# Altium schematic symbol library kbd_training_sch_lib.SchLib: 16 symbols
Pins are listed as number, name and electrical type; pins without a type are passive.

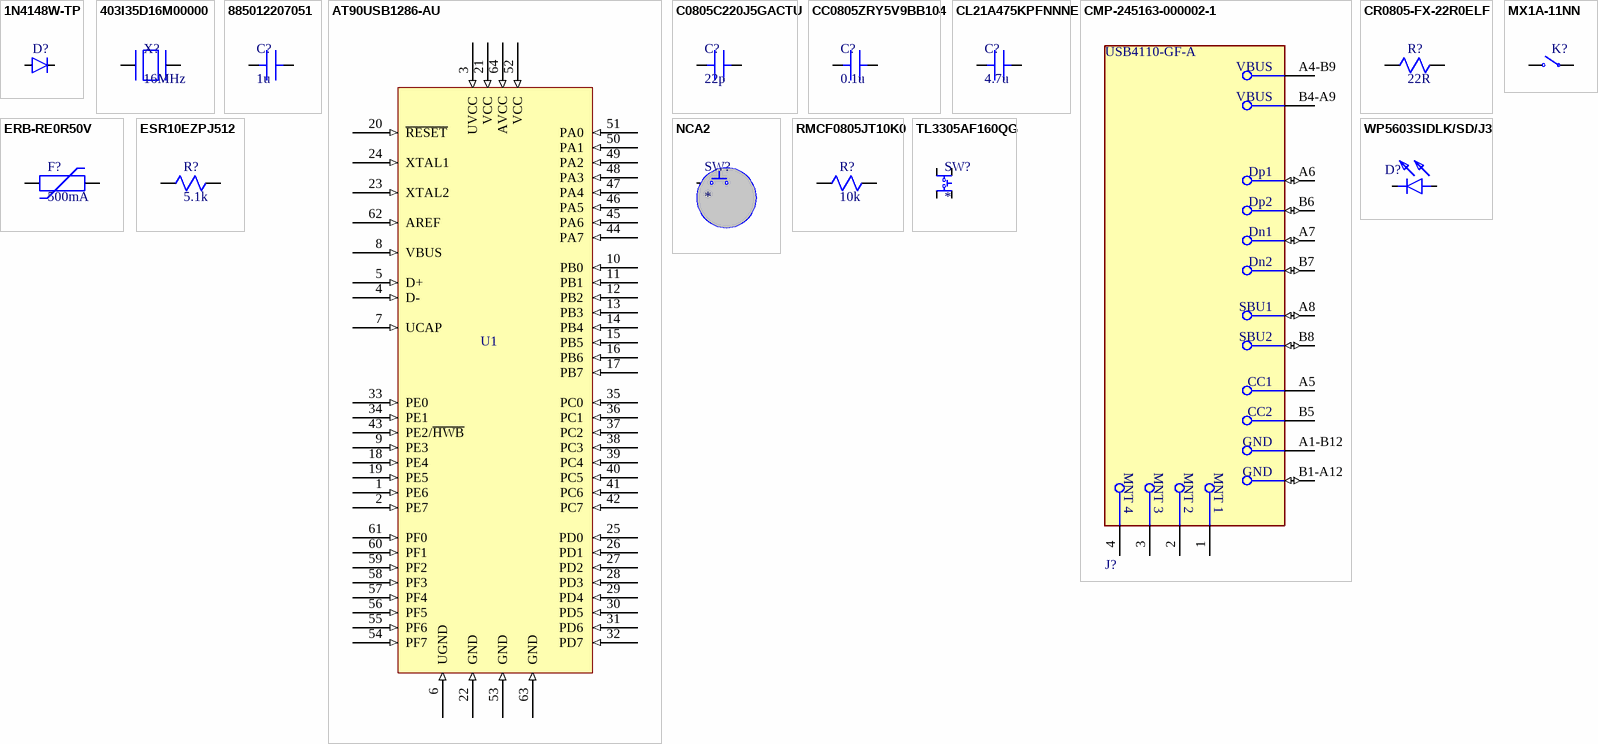
[diagram p0: symbols 1N4148W-TP to WP5603SIDLK/SD/J3]

## 1N4148W-TP
designator D?
VR=100V IF=300mA Trr=4ns P=400mW; Manufacturer: MCC; Manufacturer Part Number: 1N4148W-TP; Max Surge Current: 2A; Forward Voltage: 1V; Forward Current: 150mA; Recovery Time: 4ns; Max Reverse Leakage Current: 5uA; Max Repetitive Reverse Voltage (Vrrm): 100V; Power Dissipation: 400mW; Max Forward Surge Current (Ifsm): 1A; Element Configuration: Single; Polarity: Standard; Capacitance: 4pF; Supplier 1: Digi-Key; RoHS: Yes; Category: Rectifier Diodes; Stock 1: 5873694; Pricing 1: 1=0.19000, 10=0.17300, 100=0.09440, 500=0.05808, 1000=0.03960 (USD); Mount: Surface Mount; Number of Pins: 2; Min Operating Temperature: -65°C; Max Operating Temperature: 150°C; Packaging: Tape and Reel; Package Quantity: 3000; Average Rectified Current: 150mA; Reverse Recovery Time: 4ns; Peak Non-Repetitive Surge Current: 2A; Voltage Rating (DC): 100V; Current Rating: 150mA; Output Current: 150mA; Max Reverse Voltage (DC): 100V; Series: 1N4148; Reverse Recovery Time-Max: 4ns; Length: 2.85mm; Width: 1.8mm; Height: 1.2mm; Radiation Hardening: No; REACH SVHC: Unknown; Lead Free: Lead Free; RoHS Compliant: Yes; ComponentLink1URL: https://datasheet.ciiva.com/16836/1n4148wsod123-16836277.pdf?src-supplier=Future+Electronics; ComponentLink1Description: https://datasheet.ciiva.com/16836/1n4148wsod123-16836277.pdf?src-supplier=Future+Electronics; ComponentLink2URL: https://datasheet.ciiva.com/1243/1684829-1243908.pdf?src-supplier=Newark; ComponentLink2Description: https://datasheet.ciiva.com/1243/1684829-1243908.pdf?src-supplier=Newark; ComponentLink3URL: https://datasheet.ciiva.com/4435/1n4148wsod123-48460-4435223.pdf?src-supplier=Mouser; ComponentLink3Description: https://datasheet.ciiva.com/4435/1n4148wsod123-48460-4435223.pdf?src-supplier=Mouser; ComponentLink4URL: https://datasheet.ciiva.com/7622/1684829-7622556.pdf?src-supplier=Element14; ComponentLink4Description: https://datasheet.ciiva.com/7622/1684829-7622556.pdf?src-supplier=Element14; ComponentLink5URL: https://datasheet.ciiva.com/911/1n4148wsod123-911677.pdf?src-supplier=Digi-Key; ComponentLink5Description: https://datasheet.ciiva.com/911/1n4148wsod123-911677.pdf?src-supplier=Digi-Key; ComponentLink6URL: https://datasheet.ciiva.com/911/1n4148wsod123-911678.pdf?src-supplier=Digi-Key; ComponentLink6Description: https://datasheet.ciiva.com/911/1n4148wsod123-911678.pdf?src-supplier=Digi-Key; ComponentLink7URL: https://datasheet.ciiva.com/911/1n4148wsod123-911676.pdf?src-supplier=Digi-Key; ComponentLink7Description: https://datasheet.ciiva.com/911/1n4148wsod123-911676.pdf?src-supplier=Digi-Key; ComponentLink8URL: https://datasheet.ciiva.com/22747/1684829-22747439.pdf?src-supplier=Element14; ComponentLink8Description: https://datasheet.ciiva.com/22747/1684829-22747439.pdf?src-supplier=Element14; ComponentLink9URL: https://datasheet.ciiva.com/14557/70055519-14557767.pdf?src-supplier=Allied+Electronics; ComponentLink9Description: https://datasheet.ciiva.com/14557/70055519-14557767.pdf?src-supplier=Allied+Electronics; Supplier Part Number 1: 1N4148WTPMSCT-ND
footprint 1N4 diode
pins: 1, 2

## 403I35D16M00000
designator X?, comment 16MHz
Crystal 16MHz ±30ppm (Tol) ±50ppm (Stability) 18pF FUND 80Ohm 4-Pin SMD T/R; Manufacturer: CTS; Manufacturer Part Number: 403I35D16M00000; ESR (Equivalent Series Resistance): 80R; Supplier 1: Digi-Key; RoHS: Yes; Category: Crystals; Stock 1: 79; Pricing 1: 1=0.76000, 10=0.66900, 50=0.62540, 100=0.55270, 500=0.52358, 1000=0.43632 (USD); Mount: Surface Mount; Case/Package: CSMD; Number of Pins: 4; Contact Plating: Gold; Min Operating Temperature: -40°C; Max Operating Temperature: 85°C; Packaging: Tape and Reel; Frequency Tolerance: 30ppm; Load Capacitance: 18pF; Package Quantity: 3000; Frequency: 16MHz; Tolerance: 30ppm; Frequency Stability: 50ppm; Termination: SMD/SMT; Series Resistance: 80R; Series: 403; Length: 3.2mm; Width: 2.5mm; Height: 0.031inch; Depth: 2.5mm; Radiation Hardening: No; Lead Free: Lead Free; RoHS Compliant: Yes; ComponentLink1URL: https://datasheet.ciiva.com/26909/getdatasheetpartid-501306-26909962.pdf?src-supplier=Verical; ComponentLink1Description: https://datasheet.ciiva.com/26909/getdatasheetpartid-501306-26909962.pdf?src-supplier=Verical; ComponentLink2URL: https://datasheet.ciiva.com/861/008-0288-0-f-861390.pdf?src-supplier=Digi-Key; ComponentLink2Description: https://datasheet.ciiva.com/861/008-0288-0-f-861390.pdf?src-supplier=Digi-Key; ComponentLink3URL: https://datasheet.ciiva.com/29630/008-0288-0-f-29630970.pdf?src-supplier=Digi-Key; ComponentLink3Description: https://datasheet.ciiva.com/29630/008-0288-0-f-29630970.pdf?src-supplier=Digi-Key; ComponentLink4URL: https://datasheet.ciiva.com/29630/008-0288-0-f-29630972.pdf?src-supplier=Digi-Key; ComponentLink4Description: https://datasheet.ciiva.com/29630/008-0288-0-f-29630972.pdf?src-supplier=Digi-Key; ComponentLink5URL: https://datasheet.ciiva.com/29630/008-0288-0-f-29630971.pdf?src-supplier=Digi-Key; ComponentLink5Description: https://datasheet.ciiva.com/29630/008-0288-0-f-29630971.pdf?src-supplier=Digi-Key; ComponentLink6URL: https://datasheet.ciiva.com/29894/008-0288-0-f-29894534.pdf?src-supplier=Avnet; ComponentLink6Description: https://datasheet.ciiva.com/29894/008-0288-0-f-29894534.pdf?src-supplier=Avnet
footprint xtal-m403
pins: 1, 3

## 885012207051
designator C?, comment 1u
Cap, 1ΜF, 16V, 10%, X7R, 0805; Manufacturer: Wurth Electronics; Manufacturer Part Number: 885012207051; Capacitance: 1uF; Supplier 1: Digi-Key; RoHS: Yes; Category: Ceramic Capacitors; Stock 1: 58540; Pricing 1: 1=0.10000, 10=0.08200, 100=0.07400, 500=0.06500 (USD); Mount: Surface Mount; Case/Package: 0805; Case Code (Metric): 2012; Case Code (Imperial): 0805; Min Operating Temperature: -55°C; Max Operating Temperature: 125°C; Packaging: Tape and Reel; Voltage Rating: 16V; Tolerance: 10%; Length: 0.079inch; Width: 0.049inch; Thickness: 0.053inch; RoHS Compliant: Yes; ComponentLink1URL: http://www.farnell.com/datasheets/2031863.pdf?src-supplier=Farnell; ComponentLink1Description: http://www.farnell.com/datasheets/2031863.pdf?src-supplier=Farnell; ComponentLink2URL: http://www.farnell.com/datasheets/2031863.pdf?src-supplier=Newark; ComponentLink2Description: http://www.farnell.com/datasheets/2031863.pdf?src-supplier=Newark; ComponentLink3URL: http://www.farnell.com/datasheets/2031863.pdf?src-supplier=Element14; ComponentLink3Description: http://www.farnell.com/datasheets/2031863.pdf?src-supplier=Element14; ComponentLink4URL: https://katalog.we-online.de/pbs/datasheet/885012207051.pdf?src-supplier=Digi-Key; ComponentLink4Description: https://katalog.we-online.de/pbs/datasheet/885012207051.pdf?src-supplier=Digi-Key; Supplier Part Number 1: 732-7664-1-ND
footprint Cap0805
pins: 1, 2  

## AT90USB1286-AU
designator U1
AT90 Series 128 KB Flash 8 kB SRAM 16 MHz 8-Bit Microcontroller - TQFP-64; Manufacturer: Microchip; Manufacturer Part Number: AT90USB1286-AU; Supplier 1: Mouser; RoHS: Yes; Category: Microcontrollers; Stock 1: 3; Pricing 1: 1=10.81000, 10=10.81000, 25=9.92000, 50=9.92000, 90=9.72000, 100=9.72000, 1000=9.72000, 10000=9.72000 (USD); Case/Package: TQFP; RoHS Compliant: Yes; ComponentLink1URL: http://www.farnell.com/datasheets/2048476.pdf?src-supplier=Farnell; ComponentLink1Description: http://www.farnell.com/datasheets/2048476.pdf?src-supplier=Farnell; ComponentLink2URL: http://ww1.microchip.com/downloads/en/DeviceDoc/7593S.pdf?src-supplier=Digi-Key; ComponentLink2Description: http://ww1.microchip.com/downloads/en/DeviceDoc/7593S.pdf?src-supplier=Digi-Key; Supplier Part Number 1: 556-AT90USB1286-AU
footprint QFP80P1600X1600X120-64N
pins: 1 PE6 (in), 2 PE7 (in), 3 UVCC (in), 4 D- (in), 5 D+ (in), 6 UGND (in), 7 UCAP (in), 8 VBUS (in), 9 PE3 (in), 10 PB0 (in), 11 PB1 (in), 12 PB2 (in), 13 PB3 (in), 14 PB4 (in), 15 PB5 (in), 16 PB6 (in), 17 PB7 (in), 18 PE4 (in), 19 PE5 (in), 20 ~{RESET} (in), 21 VCC (in), 22 GND (in), 23 XTAL2 (in), 24 XTAL1 (in), 25 PD0 (in), 26 PD1 (in), 27 PD2 (in), 28 PD3 (in), 29 PD4 (in), 30 PD5 (in), 31 PD6 (in), 32 PD7 (in), 33 PE0 (in), 34 PE1 (in), 35 PC0 (in), 36 PC1 (in), 37 PC2 (in), 38 PC3 (in), 39 PC4 (in), 40 PC5 (in), 41 PC6 (in), 42 PC7 (in), 43 PE2/~{HWB} (in), 44 PA7 (in), 45 PA6 (in), 46 PA5 (in), 47 PA4 (in), 48 PA3 (in), 49 PA2 (in), 50 PA1 (in), 51 PA0 (in), 52 VCC (in), 53 GND (in), 54 PF7 (in), 55 PF6 (in), 56 PF5 (in), 57 PF4 (in), 58 PF3 (in), 59 PF2 (in), 60 PF1 (in), 61 PF0 (in), 62 AREF (in), 63 GND (in), 64 AVCC (in)

## C0805C220J5GACTU
designator C?, comment 22p
Cap Ceramic 22pF 50V C0G 5% SMD 0805 125C Plastic T/R; Manufacturer: KEMET; Manufacturer Part Number: C0805C220J5GACTU; Temperature Coefficient: 30ppm/°C; Supplier 1: Digi-Key; RoHS: Yes; Category: Ceramic Capacitors; Stock 1: 630269; Pricing 1: 1=0.10000, 10=0.06000, 50=0.03300, 100=0.02700, 500=0.01924, 1000=0.01512 (USD); Mount: PCB,Surface Mount; Case/Package: 0805; Case Code (Metric): 2012; Case Code (Imperial): 0805; Weight: 0.000194oz; Contact Material: Tin; Contact Plating: Tin,Matte; Dielectric Material: Ceramic; Min Operating Temperature: -55°C; Max Operating Temperature: 125°C; Packaging: Tape and Reel; Capacitance: 22pF; Tolerance: 5%; Package Quantity: 1; Voltage Rating: 50V; Voltage Rating (DC): 50V; Dielectric: C0G; Termination: SMD/SMT; Voltage: 50V; Series: C0805C; Construction: Flat; Length: 2mm; Width: 1.25mm; Height: 0.78mm; Thickness: 0.035inch; Depth: 1.25mm; Radiation Hardening: No; REACH SVHC: No SVHC; Lead Free: Lead Free; ComponentLink1URL: https://datasheet.ciiva.com/7842/1732694-7842250.pdf?src-supplier=Element14; ComponentLink1Description: https://datasheet.ciiva.com/7842/1732694-7842250.pdf?src-supplier=Element14; ComponentLink2URL: https://datasheet.ciiva.com/7842/1372242-7842570.pdf?src-supplier=Element14; ComponentLink2Description: https://datasheet.ciiva.com/7842/1372242-7842570.pdf?src-supplier=Element14; ComponentLink3URL: https://datasheet.ciiva.com/7842/1732694-7842251.pdf?src-supplier=Element14; ComponentLink3Description: https://datasheet.ciiva.com/7842/1732694-7842251.pdf?src-supplier=Element14; ComponentLink4URL: https://datasheet.ciiva.com/7842/kem-c1003-c0g-smd-7842569.pdf?src-supplier=Element14; ComponentLink4Description: https://datasheet.ciiva.com/7842/kem-c1003-c0g-smd-7842569.pdf?src-supplier=Element14; ComponentLink5URL: https://datasheet.ciiva.com/28668/1789732-28668761.pdf?src-supplier=Element14; ComponentLink5Description: https://datasheet.ciiva.com/28668/1789732-28668761.pdf?src-supplier=Element14; Supplier Part Number 1: 399-C0805C220J5GAC7800CT-ND
footprint Cap0805
pins: 1, 2  

## CC0805ZRY5V9BB104
designator C?, comment 0.1u
Cap Ceramic 0.1uF 50V Y5V -20% to 80% SMD 0805 85C T/R; Manufacturer: Yageo; Manufacturer Part Number: CC0805ZRY5V9BB104; Capacitance: 100nF; Supplier 1: Digi-Key; RoHS: Yes; Category: Ceramic Capacitors; Stock 1: 957069; Pricing 1: 1=0.10000, 10=0.06700, 50=0.03640, 100=0.02960, 500=0.02118, 1000=0.01664 (USD); Mount: Surface Mount; Case/Package: 0805; Number of Pins: 2; Case Code (Metric): 2012; Case Code (Imperial): 0805; Material: Ceramic; Dielectric Material: Ceramic; Min Operating Temperature: -30°C; Max Operating Temperature: 85°C; Package Quantity: 1; Voltage Rating: 50V; Tolerance: 80%; Packaging: Tape and Reel; Voltage Rating (DC): 50V; Dielectric: Y5V; Termination: SMD/SMT; Resistor Type: Ceramic; Series: CC; Construction: Flat; Length: 2mm; Width: 0.049inch; Height: 0.6mm; Thickness: 0.024inch; Depth: 1.25mm; Radiation Hardening: No; REACH SVHC: No SVHC; Lead Free: Lead Free; Halogen Free: Halogen Free; RoHS Compliant: Yes; ComponentLink1URL: https://datasheet.ciiva.com/28450/1132289-28450870.pdf?src-supplier=Element14; ComponentLink1Description: https://datasheet.ciiva.com/28450/1132289-28450870.pdf?src-supplier=Element14; ComponentLink2URL: https://datasheet.ciiva.com/144/mlccorderingcode-144210.pdf?src-supplier=Digi-Key; ComponentLink2Description: https://datasheet.ciiva.com/144/mlccorderingcode-144210.pdf?src-supplier=Digi-Key; ComponentLink3URL: https://datasheet.ciiva.com/144/mlccorderingcode-144209.pdf?src-supplier=Digi-Key; ComponentLink3Description: https://datasheet.ciiva.com/144/mlccorderingcode-144209.pdf?src-supplier=Digi-Key; ComponentLink4URL: https://datasheet.ciiva.com/144/mlccorderingcode-144211.pdf?src-supplier=Digi-Key; ComponentLink4Description: https://datasheet.ciiva.com/144/mlccorderingcode-144211.pdf?src-supplier=Digi-Key; ComponentLink5URL: https://datasheet.ciiva.com/13389/upy-gp-np0-16v-to-50v-8-13389351.pdf?src-supplier=Mouser; ComponentLink5Description: https://datasheet.ciiva.com/13389/upy-gp-np0-16v-to-50v-8-13389351.pdf?src-supplier=Mouser; ComponentLink6URL: https://datasheet.ciiva.com/11465/upy-gphc-y5v-6-3v-to-50v-5-11465865.pdf?src-supplier=Avnet; ComponentLink6Description: https://datasheet.ciiva.com/11465/upy-gphc-y5v-6-3v-to-50v-5-11465865.pdf?src-supplier=Avnet; ComponentLink7URL: https://datasheet.ciiva.com/16747/upy-gphc-y5v-6-3v-to-50v-5-revised-16747323.pdf?src-supplier=Future+Electronics; ComponentLink7Description: https://datasheet.ciiva.com/16747/upy-gphc-y5v-6-3v-to-50v-5-revised-16747323.pdf?src-supplier=Future+Electronics; ComponentLink8URL: https://datasheet.ciiva.com/15189/getdatasheetpartid-55882-15189238.pdf?src-supplier=Verical; ComponentLink8Description: https://datasheet.ciiva.com/15189/getdatasheetpartid-55882-15189238.pdf?src-supplier=Verical; ComponentLink9URL: https://datasheet.ciiva.com/29241/445331-da-01-en-kerko-chip-0805-y5v0-1uf-20-80proz50vg-29241946.pdf?src-supplier=Conrad; ComponentLink9Description: https://datasheet.ciiva.com/29241/445331-da-01-en-kerko-chip-0805-y5v0-1uf-20-80proz50vg-29241946.pdf?src-supplier=Conrad; Supplier Part Number 1: 311-1361-1-ND
footprint Cap0805
pins: 1, 2  

## CL21A475KPFNNNE
designator C?, comment 4.7u
Cap Ceramic 4.7uF 10V X5R 10% SMD 0805 85C T/R; Manufacturer: Samsung; Manufacturer Part Number: CL21A475KPFNNNE; Supplier 1: Digi-Key; RoHS: Yes; Category: Ceramic Capacitors; Stock 1: 1032476; Pricing 1: 1=0.10000, 10=0.07500, 50=0.04060, 100=0.03320, 500=0.02372, 1000=0.01863 (USD); Mount: Surface Mount; Case/Package: 0805; Case Code (Metric): 2012; Case Code (Imperial): 0805; Contact Plating: Tin; Min Operating Temperature: -55°C; Max Operating Temperature: 85°C; Package Quantity: 1; Packaging: Tape and Reel; Capacitance: 4.7uF; Tolerance: 10%; Voltage Rating: 10V; Dielectric: X5R; Voltage Rating (DC): 10V; Series: CL; Construction: Flat; Length: 2mm; Width: 0.049inch; Height: 1.25mm; Thickness: 0.053inch; Depth: 1.25mm; Radiation Hardening: No; Lead Free: Lead Free; RoHS Compliant: Yes; ComponentLink1URL: https://datasheet.ciiva.com/25766/cl21a475kpfnnne-25766898.pdf?src-supplier=Digi-Key; ComponentLink1Description: https://datasheet.ciiva.com/25766/cl21a475kpfnnne-25766898.pdf?src-supplier=Digi-Key; ComponentLink2URL: https://datasheet.ciiva.com/15216/getdatasheetpartid-358357-15216235.pdf?src-supplier=Verical; ComponentLink2Description: https://datasheet.ciiva.com/15216/getdatasheetpartid-358357-15216235.pdf?src-supplier=Verical; ComponentLink3URL: https://datasheet.ciiva.com/26310/mlcc-catalogdownload2013-eng-26310173.pdf?src-supplier=Distrelec; ComponentLink3Description: https://datasheet.ciiva.com/26310/mlcc-catalogdownload2013-eng-26310173.pdf?src-supplier=Distrelec; ComponentLink4URL: https://datasheet.ciiva.com/16374/cl05b104kq5nnnc-16374138.pdf?src-supplier=Future+Electronics; ComponentLink4Description: https://datasheet.ciiva.com/16374/cl05b104kq5nnnc-16374138.pdf?src-supplier=Future+Electronics; Supplier Part Number 1: 1276-1259-1-ND
footprint Cap0805
pins: 1, 2  

## CMP-245163-000002-1
designator J?, comment USB4110-GF-A
CONN USB 2.0 TYPE-C R/A SMT; Manufacturer: GCT; Conn Orientation: Right Angle; Usb Standard: USB 2.0; Voltage Rating: 20V; Current Rating: 3/4.25/1.25/0.25A; Number Of Contacts: 16; Is Female: yes; Shielding: true; Standoff Height: 0.1mm; Octopart: https://octopart.com/usb4110-gf-a-gct-103941985; Temperature: -40°C to +85°C; RoHS: TRUE; Automotive: No; Contact Material: Gold,Nickel; Device Class L1: Connectors; Device Class L2: USB Connectors; Package: 0; Lead Free: Yes; ComponentLink2URL: https://gct.co/files/drawings/usb4110.pdf; Temperature Range High: +85°C; Temperature Range Low: -40°C; Height: 3.46mm; Manufacturer Part Number: USB4110-GF-A; ComponentLink2Description: Datasheet; Device Class L3: unset; Digikey Description: CONN USB 2.0 TYPE-C R/A SMT; Category: Conn
footprint GCT_USB4110-GF-A_REVB
footprint GCT_USB4110-GF-A_REVB
pins: 1 MNT 1, 2 MNT 2, 3 MNT 3, 4 MNT 4, A1-B12 GND, A4-B9 VBUS (power), A5 CC1 (power), A6 Dp1 (io), A7 Dn1 (io), A8 SBU1 (io), B1-A12 GND (io), B4-A9 VBUS (power), B5 CC2 (power), B6 Dp2 (io), B7 Dn2 (io), B8 SBU2 (io)

## CR0805-FX-22R0ELF
designator R?, comment 22R
Res Thick Film 0805 22 Ohm 1% 1/8W 100ppm/C Molded SMD SMD Paper Tape on Plastic Reel; Manufacturer: Bourns; Manufacturer Part Number: CR0805-FX-22R0ELF; Power Rating: 125mW; Voltage Rating: 150V; Temperature Coefficient: 100ppm/°C; Supplier 1: Digi-Key; RoHS: Yes; Category: Chip SMD Resistors; Stock 1: 13859; Pricing 1: 1=0.10000, 10=0.05000, 100=0.02040, 1000=0.00914, 2500=0.00794 (USD); Mount: Surface Mount; Case/Package: 0805; Case Code (Imperial): 0805; Case Code (Metric): 2012; Contact Plating: Tin; Min Operating Temperature: -55°C; Max Operating Temperature: 155°C; Resistance: 22R; Tolerance: 1%; Packaging: Tape and Reel; Package Quantity: 5000; Resistor Type: Thick Film; Termination: SMD/SMT; Number of Terminations: 2; Max Power Dissipation: 125mW; Features: Moisture Resistant; Series: CR0805; Construction: Rectangular; Length: 2mm; Width: 1.25mm; Height: 0.024inch; Depth: 1.25mm; Thickness: 508um; Radiation Hardening: No; Military Standard: Not; RoHS Compliant: Yes; ComponentLink1URL: https://datasheet.ciiva.com/9121/chpreztr-9121853.pdf?src-supplier=Avnet; ComponentLink1Description: https://datasheet.ciiva.com/9121/chpreztr-9121853.pdf?src-supplier=Avnet; ComponentLink2URL: https://datasheet.ciiva.com/14985/chpreztr-14985915.pdf?src-supplier=Digi-Key; ComponentLink2Description: https://datasheet.ciiva.com/14985/chpreztr-14985915.pdf?src-supplier=Digi-Key; Supplier Part Number 1: CR0805-FX-22R0ELFCT-ND
footprint Res0805
pins: 1, 2

## ERB-RE0R50V
designator F?, comment 500mA
Fuse Chip Fast Acting 0.5A 32V SMD Solder Pad 0603 1.6 X 0.8 X 0.54mm T/R UL/cUL; Manufacturer: Panasonic; Manufacturer Part Number: ERBRD0R50X; Body Material: Alumina; DC Cold Resistance: 310mR; Fuse Type: Board Mount (Cartridge Style Excluded); Fuse Size: 1 X 0.5mm; Approvals: UL; RoHS: Yes; Category: Fuses; Stock 1: 6080; Pricing 1: 1=0.27000, 5=0.26400, 10=0.25300, 50=0.22540, 100=0.20980, 250=0.18648, 500=0.15540, 1000=0.14763, 5000=0.11655 (USD); Mount: Surface Mount; Case/Package: 0402; Number of Pins: 2; Case Code (Metric): 1005; Case Code (Imperial): 0402; Min Operating Temperature: -40°C; Max Operating Temperature: 125°C; Packaging: Tape and Reel; Current Rating: 500mA; Voltage Rating (DC): 32V; Package Quantity: 10000; Max Voltage Rating (DC): 32V; Voltage Rating: 32V; Current: 500mA; Fuse Current: 500mA; Series: ERB-RD; Length: 1mm; Width: 0.5mm; Height: 0.39mm; REACH SVHC: No SVHC; RoHS Compliant: Yes; ComponentLink1URL: https://datasheet.ciiva.com/25619/0900766b810c2f76-25619805.pdf?src-supplier=RSComponents; ComponentLink1Description: https://datasheet.ciiva.com/25619/0900766b810c2f76-25619805.pdf?src-supplier=RSComponents; ComponentLink2URL: https://datasheet.ciiva.com/46392/1328695-46392479.pdf?src-supplier=Element14; ComponentLink2Description: https://datasheet.ciiva.com/46392/1328695-46392479.pdf?src-supplier=Element14; ComponentLink3URL: https://datasheet.ciiva.com/5813/1328695-5813610.pdf?src-supplier=Farnell; ComponentLink3Description: https://datasheet.ciiva.com/5813/1328695-5813610.pdf?src-supplier=Farnell; ComponentLink4URL: https://datasheet.ciiva.com/24088/panasonic-afa0000ce6-327311-24088239.pdf?src-supplier=Mouser; ComponentLink4Description: https://datasheet.ciiva.com/24088/panasonic-afa0000ce6-327311-24088239.pdf?src-supplier=Mouser; ComponentLink5URL: https://datasheet.ciiva.com/299/afa0000ce6-299063.pdf?src-supplier=Digi-Key; ComponentLink5Description: https://datasheet.ciiva.com/299/afa0000ce6-299063.pdf?src-supplier=Digi-Key; ComponentLink6URL: https://datasheet.ciiva.com/299/afa0000ce6-299064.pdf?src-supplier=Digi-Key; ComponentLink6Description: https://datasheet.ciiva.com/299/afa0000ce6-299064.pdf?src-supplier=Digi-Key; ComponentLink7URL: https://datasheet.ciiva.com/299/afa0000ce6-299062.pdf?src-supplier=Digi-Key; ComponentLink7Description: https://datasheet.ciiva.com/299/afa0000ce6-299062.pdf?src-supplier=Digi-Key; Supplier 1: Digi-Key; Supplier Part Number 1: P15127DKR-ND
footprint FUS0603
pins: 1, 2

## ESR10EZPJ512
designator R?, comment 5.1k
Res Thick Film 0805 5.1K Ohm 5% 2/5W ±200ppm/°C Molded SMD SMD Paper T/R; Manufacturer: Rohm; Manufacturer Part Number: ESR10EZPJ512; Resistance: 5.1kR; Max Power Dissipation: 400mW; Supplier 1: Digi-Key; RoHS: Yes; Category: Chip SMD Resistors; Stock 1: 4978; Pricing 1: 1=0.10000, 10=0.09000, 100=0.03450, 1000=0.01518, 2500=0.01311 (USD); Case/Package: 0805; Case Code (Metric): 2012; Case Code (Imperial): 0805; Contact Plating: Tin; Min Operating Temperature: -55°C; Max Operating Temperature: 155°C; Tolerance: 5%; Package Quantity: 1; Packaging: Tape and Reel; Resistor Type: Thick Film; Number of Terminations: 2; Temperature Coefficient: 200ppm/°C; Features: Automotive AEC-Q200; Series: ESR; Length: 0.079inch; Width: 0.049inch; Height: 0.026inch; RoHS Compliant: Yes; ComponentLink1URL: https://datasheet.ciiva.com/2515/esr-2515938.pdf?src-supplier=Digi-Key; ComponentLink1Description: https://datasheet.ciiva.com/2515/esr-2515938.pdf?src-supplier=Digi-Key; ComponentLink2URL: https://datasheet.ciiva.com/2515/esr-2515939.pdf?src-supplier=Digi-Key; ComponentLink2Description: https://datasheet.ciiva.com/2515/esr-2515939.pdf?src-supplier=Digi-Key; ComponentLink3URL: https://datasheet.ciiva.com/2515/esr-2515940.pdf?src-supplier=Digi-Key; ComponentLink3Description: https://datasheet.ciiva.com/2515/esr-2515940.pdf?src-supplier=Digi-Key; Supplier Part Number 1: RHM5.1KKCT-ND
footprint Res0805
pins: 1, 2

## MX1A-11NN
designator K?  (value not drawn)
Switch Key N.O. SPST 0.01A 12VAC 12VDC 0.58N PC Pins 50000000Cycles Thru-Hole; Manufacturer: Cherry; Manufacturer Part Number: MX1A-11NN; Number of Terminals/Pins: 2; Contact Current Rating: 10mA; Voltage Rating (AC): 12V; Contact Resistance: 200mR; Operating Force: 60N; Illumination Type: Illuminated; Insulation Resistance: 100MR; Switch Function: Off-Mom; Life (Hours): 50000000Hour; Actuator Type: PLUNGER; Row Spacing: 6.35mm; Actuator Length: 3.6mm; Ratings: IP40; Supplier 1: Digi-Key; RoHS: Yes; Category: Pushbutton Switches; Stock 1: 12102; Pricing 1: 1=0.99000, 10=0.88600, 25=0.84080, 50=0.79980, 100=0.76230, 250=0.72872, 500=0.65398, 1000=0.61660 (USD); Mount: Panel,Front,Through Hole,PCB; Case/Package: Module; Number of Pins: 2; Contact Material: Gold,Silver; Contact Plating: Gold; Housing Material: Thermoplastic; Min Operating Temperature: -10°C; Max Operating Temperature: 70°C; Voltage Rating (DC): 12V; Throw Configuration: SPST; Max Current Rating: 10mA; Current Rating: 10mA; Max Voltage Rating (AC): 12V; Max Voltage Rating (DC): 12V; Package Quantity: 1000; Packaging: Bulk; Termination: PC Pin; Life (Cycles): 50000000Cycles; Electrical Life: 50000000Cycles; Switching Current: 10mA; Orientation: Straight; Series: MX; Contact Type: 1 maker; Length: 15.6mm; Width: 15.6mm; Terminal Pitch: 2.54mm; REACH SVHC: No SVHC; Lead Free: Lead Free; Flammability Rating: UL94 HB; RoHS Compliant: Yes; ComponentLink1URL: https://datasheet.ciiva.com/7637/1792245-7637139.pdf?src-supplier=Element14; ComponentLink1Description: https://datasheet.ciiva.com/7637/1792245-7637139.pdf?src-supplier=Element14; ComponentLink2URL: https://datasheet.ciiva.com/29188/706315-da-01-de-tastenmodul-mx1a-11nn-0-01a-12v-29188125.pdf?src-supplier=Conrad; ComponentLink2Description: https://datasheet.ciiva.com/29188/706315-da-01-de-tastenmodul-mx1a-11nn-0-01a-12v-29188125.pdf?src-supplier=Conrad; ComponentLink3URL: https://datasheet.ciiva.com/2869/mxseries-2869565.pdf?src-supplier=Digi-Key; ComponentLink3Description: https://datasheet.ciiva.com/2869/mxseries-2869565.pdf?src-supplier=Digi-Key; ComponentLink4URL: https://datasheet.ciiva.com/14542/70207618-14542184.pdf?src-supplier=Allied+Electronics; ComponentLink4Description: https://datasheet.ciiva.com/14542/70207618-14542184.pdf?src-supplier=Allied+Electronics; Supplier Part Number 1: CH162-ND
footprint CHERRY_MX1A-11NN_SWITCH
pins: 1, 2

## NCA2
designator SW?
Key Style Pb, SPST, Mom, Black A; Manufacturer: CIT Relay & Switch; Manufacturer Part Number: NCA2; Supplier 1: Digi-Key; RoHS: Yes; Stock 1: 3430; Pricing 1: 1=0.94000, 10=0.83800, 25=0.79520, 50=0.75640, 100=0.72110, 250=0.68932, 500=0.61862, 1000=0.58328 (USD); Supplier Part Number 1: 2449-NCA2-ND
footprint NCA2 Switch
pins: 1, 3

## RMCF0805JT10K0
designator R?, comment 10k
Res Thick Film 0805 10K Ohm 5% 0.125W(1/8W) ±200ppm/C Pad SMD Automotive T/R; Manufacturer: Stackpole Electronics; Manufacturer Part Number: RMCF0805JT10K0; Resistance: 10kR; Power Rating: 125mW; Temperature Coefficient: 100ppm/°C; Supplier 1: Digi-Key; RoHS: Yes; Category: Chip SMD Resistors; Stock 1: 1086026; Pricing 1: 1=0.10000, 10=0.02000, 100=0.00810, 1000=0.00366, 2500=0.00318 (USD); Mount: Surface Mount; Case/Package: 0805; Case Code (Metric): 2012; Case Code (Imperial): 0805; Contact Plating: Tin,Matte; Size Code: 0805; Min Operating Temperature: -55°C; Max Operating Temperature: 155°C; Packaging: Tape and Reel; Tolerance: 5%; Resistor Type: Thick Film; Number of Terminations: 2; Max Power Dissipation: 125mW; Features: Automotive AEC-Q200; Series: RMCF; Construction: Rectangular; Length: 2mm; Width: 0.049inch; Height: 0.026inch; Depth: 1.25mm; Radiation Hardening: No; Military Standard: Not; Lead Free: Lead Free; RoHS Compliant: Yes; ComponentLink1URL: https://datasheet.ciiva.com/15193/getdatasheetpartid-363745-15193627.pdf?src-supplier=Verical; ComponentLink1Description: https://datasheet.ciiva.com/15193/getdatasheetpartid-363745-15193627.pdf?src-supplier=Verical; Supplier Part Number 1: RMCF0805JT10K0CT-ND
footprint Res0805
pins: 1, 2

## TL3305AF160QG
designator SW?
TL3305A Series SPST 12 V 4.5 x 4.5 mm 160 gf Top Actuated SMT Tactile Switch; Manufacturer: E-Switch; Manufacturer Part Number: TL3305AF160QG; Mechanical Life: 500000Cycles; Illumination Type: Non-Illuminated; Operating Force: 160gf; Switch Travel: 0.2mm; Switch Function: Off-Mom; Actuator Type: Standard; Supplier 1: Digi-Key; RoHS: Yes; Category: Tactile Switches; Stock 1: 28654; Pricing 1: 1=0.21000, 10=0.19900, 25=0.18880, 100=0.17170, 250=0.16140, 500=0.14766, 1000=0.12362 (USD); Mount: Surface Mount; Min Operating Temperature: -20°C; Max Operating Temperature: 70°C; Packaging: Tape and Reel; Termination: Gull Wing; Throw Configuration: SPST; Lead Free: Lead Free; RoHS Compliant: Yes; ComponentLink1URL: http://www.farnell.com/datasheets/2554191.pdf?src-supplier=Farnell; ComponentLink1Description: http://www.farnell.com/datasheets/2554191.pdf?src-supplier=Farnell; ComponentLink2URL: http://www.farnell.com/datasheets/2554191.pdf?src-supplier=Newark; ComponentLink2Description: http://www.farnell.com/datasheets/2554191.pdf?src-supplier=Newark; ComponentLink3URL: http://spec_sheets.e-switch.com/specs/P010468.pdf?src-supplier=Digi-Key; ComponentLink3Description: http://spec_sheets.e-switch.com/specs/P010468.pdf?src-supplier=Digi-Key; Supplier Part Number 1: EG5350CT-ND
footprint TL3305 SW
pins: 1, 2, 3, 4

## WP5603SIDLK/SD/J3
designator D?  (value not drawn)
LED Uni-Color Hyper Red 640nm 2-Pin Bulk; Manufacturer: Kingbright; Manufacturer Part Number: WP5603SIDLK/SD/J3; Lens Style: Elliptical,Domed; Lens Transparency: Diffused; Luminous Intensity: 2400mcd; Forward Voltage: 2.2V; Test Current: 20mA; Viewing Angle: 40°; Dominant Wavelength: 625nm; Lens Size: 3.8mm; Supplier 1: Digi-Key; RoHS: Yes; Category: LEDs; Stock 1: 11905; Pricing 1: 1=0.68000, 10=0.42000, 100=0.24140, 1000=0.18889, 2000=0.17315, 5000=0.15741, 10000=0.14850 (USD); Mount: Through Hole; Case/Package: Radial; Color: Red; Lens Color: Red; Packaging: Bulk; Height: 7.25mm; RoHS Compliant: Yes; ComponentLink1URL: http://www.kingbrightusa.com/images/catalog/SPEC/WP5603SIDLK-SD-J3.pdf?src-supplier=Digi-Key; ComponentLink1Description: http://www.kingbrightusa.com/images/catalog/SPEC/WP5603SIDLK-SD-J3.pdf?src-supplier=Digi-Key; Supplier Part Number 1: 754-2132-ND
footprint MT5470EUR
pins: 1, 2